# Altium schematic symbol library Resistor.Schlib: 1 symbol
Pins are listed as number, name and electrical type; pins without a type are passive.

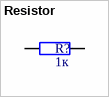
[diagram p0: symbol Resistor]

## Resistor
designator R?, comment 1к
Resistor; Назначение: ЧИП-резистор; Наименование: Р1-12-0.125 ОСМ; Published: 8-Jun-2000; Revision: July-2002: Re-released for DXP Platform.; Publisher: Altium Limited; Value: 1к
footprint CR-1206
footprint CR-0805
pins: 1, 2
1 alternate drawing of the same symbol